# Altium footprint library SA818.PcbLib: 2 footprints
Each footprint in its own frame and in the unit in brackets; x right, y up, seen from the top. Pads: shape width x height; smd on the part's side, far side on the other; paste and mask are expansions set on the pad; w line width, h text height; cw(c..) or ccw(c..) is an arc to the next point about the centre after c.
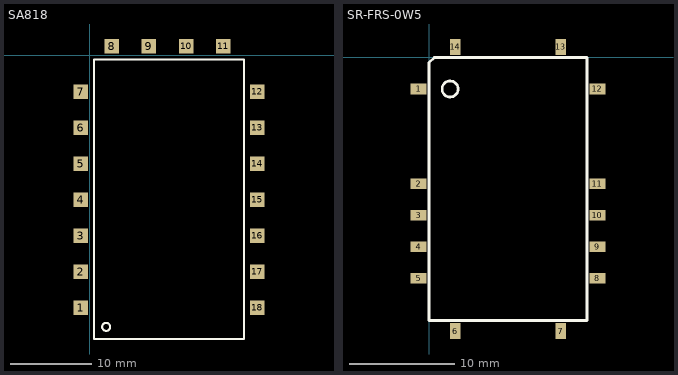
[diagram p0: the footprints below, top view; thin cyan lines are the x and y axes]

## SA818 [mm]
pads (18):
  rect 1.8x1.8 smd: 1(-1.12,-31.166) 2(-1.12,-26.721) 3(-1.12,-22.276) 4(-1.12,-17.805) 5(-1.12,-13.36) 6(-1.12,-8.915) 7(-1.12,-4.47) 8(2.667,1.12) 9(7.264,1.12) 10(11.862,1.12) 11(16.459,1.12) 12(20.627,-4.47) 13(20.627,-8.915) 14(20.627,-13.36) 15(20.627,-17.805) 16(20.627,-22.276) 17(20.627,-26.721) 18(20.627,-31.166)
Top Overlay:
  circle w0.254: c2,-33.5 r0.5
  lines w0.254: 0.5,-35 19,-35 19,-0.5 0.5,-0.5 0.5,-35

## SR-FRS-0W5 [mm]
pads (14):
  rect 1.5x1 smd: 1(-1,-3) 2(-1,-12) 3(-1,-15) 4(-1,-18) 5(-1,-21) 8(16,-21) 9(16,-18) 10(16,-15) 11(16,-12) 12(16,-3)
  rect 1x1.5 smd: 6(2.5,-26) 7(12.5,-26) 13(12.5,1) 14(2.5,1)
Top Overlay:
  circle w0.254: c2,-3 r0.762
  lines w0.254: 0,-25 0,-0.5 0.5,0 15,0 15,-25 0,-25